# Altium schematic symbol library Schlib.SchLib: 84 symbols (part 2 of 2)
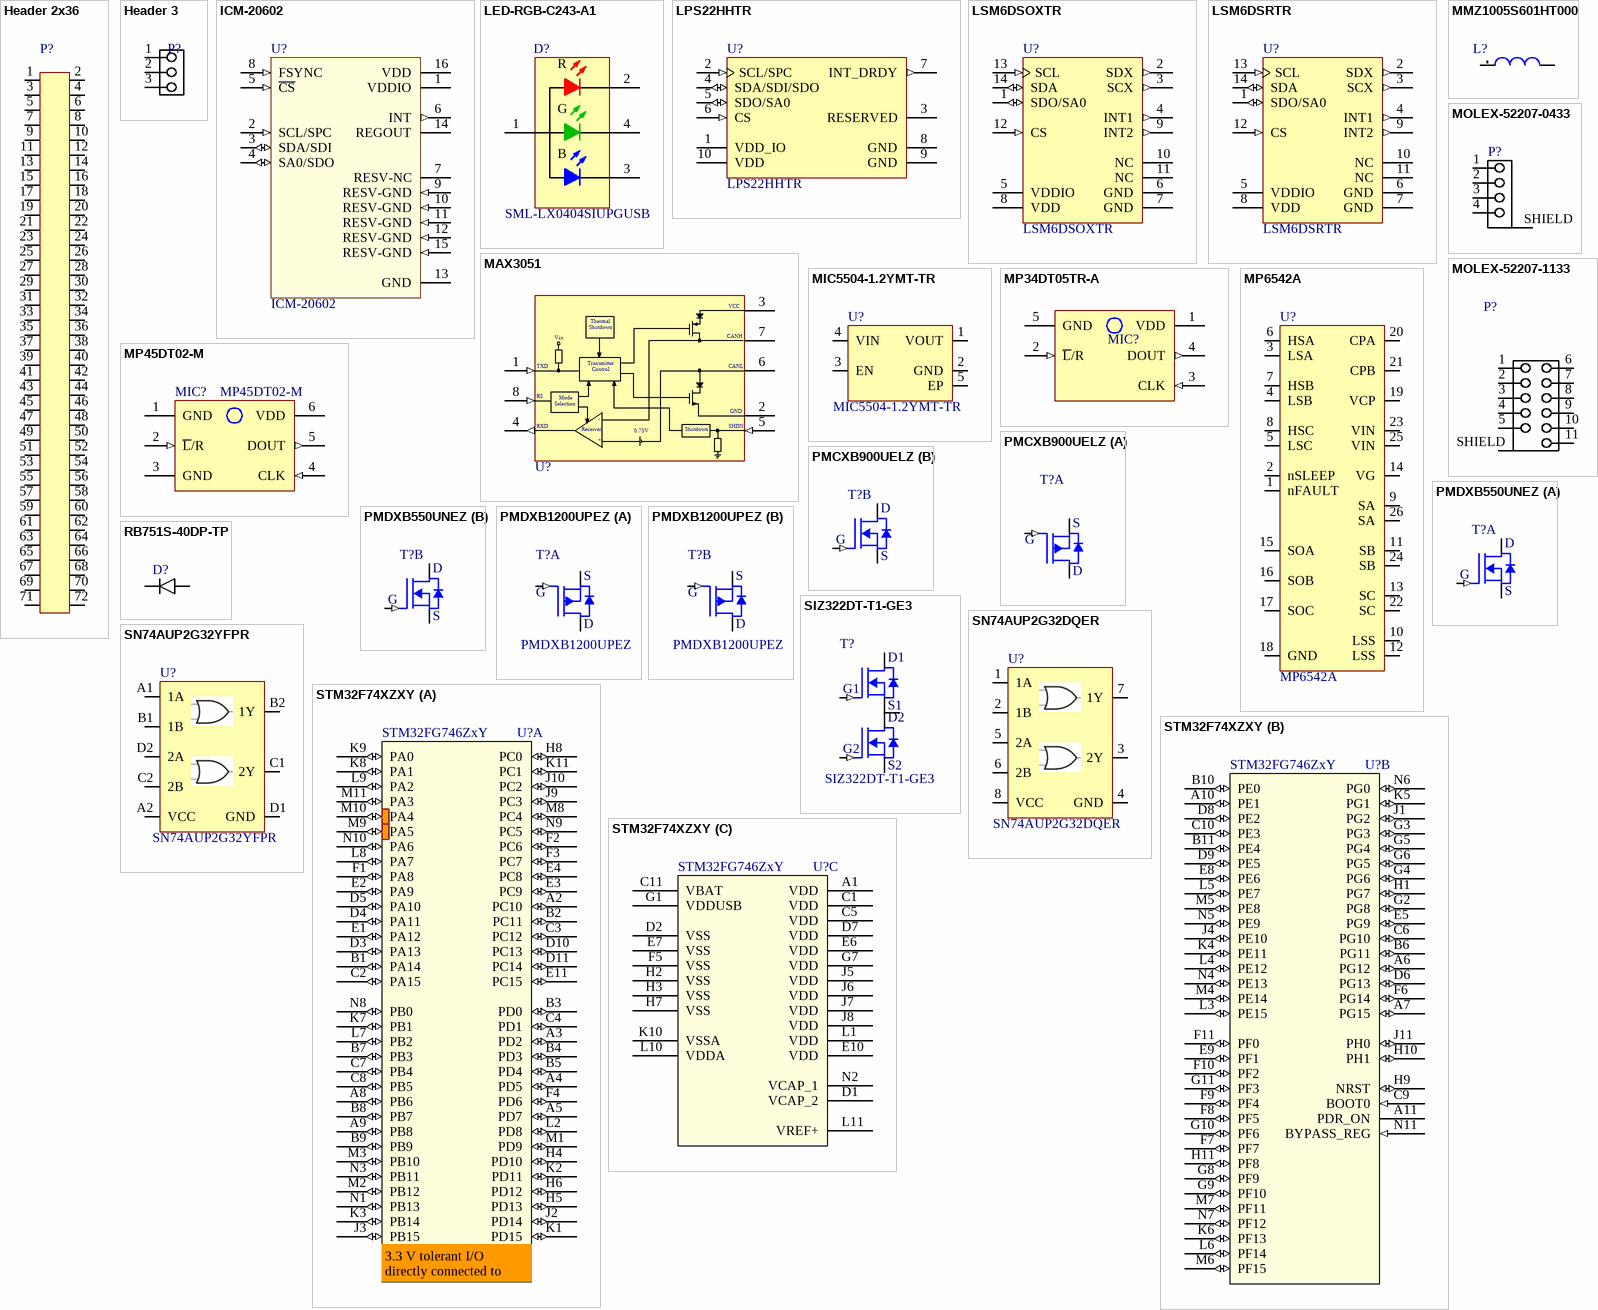
[diagram p5: symbols Header 2x36 to STM32F74XZXY]

## PMCXB900UELZ
designator T?  (value not drawn)
20 V, COMPLEMENTARY N/P-CHANNEL; Manufacturer: NXP Semiconductors; Manufacturer Part Number: PMCXB900UELZ; FET Type: N and P-Channel; Drain to Source Voltage (Vdss): 20V; Continuous Drain Current (ID): 600mA; Rds On Max: 620mR; Input Capacitance: 21.3pF; Max Power Dissipation: 380mW; Supplier 1: Digi-Key; Stock 1: 3593; Pricing 1: 1 = 0,38000, 10 = 0,30600, 25 = 0,27960, 100 = 0,17550, 500 = 0,16250, 1000 = 0,11050, 2500 = 0,10595 (USD); RoHS: Yes; Mount: Surface Mount; Min Operating Temperature: -55°C; Max Operating Temperature: 150°C; Packaging: Tape and Reel; ComponentLink1URL: http://www.farnell.com/datasheets/2167014.pdf?src-supplier=Farnell; ComponentLink1Description: http://www.farnell.com/datasheets/2167014.pdf?src-supplier=Farnell; ComponentLink2URL: https://assets.nexperia.com/documents/data-sheet/PMCXB900UEL.pdf?src-supplier=Digi-Key; ComponentLink2Description: https://assets.nexperia.com/documents/data-sheet/PMCXB900UEL.pdf?src-supplier=Digi-Key; ComponentLink3URL: http://cache.nxp.com/documents/data_sheet/PMCXB900UEL.pdf?src-supplier=Digi-Key; ComponentLink3Description: http://cache.nxp.com/documents/data_sheet/PMCXB900UEL.pdf?src-supplier=Digi-Key
footprint DFN1010B-6
part A pins: 3 D, 4 S, 5 G (in)
part B pins: 1 S, 2 G (in), 6 D

## PMDXB550UNEZ
designator T?  (value not drawn)
DUAL N-CHANNEL 30V; Manufacturer: NXP Semiconductors; Manufacturer Part Number: PMDXB550UNEZ; Continuous Drain Current (ID): 590mA; Max Power Dissipation: 285mW; Rds On Max: 670mR; Input Capacitance: 30.3pF; FET Type: 2 N-Channel; Supplier 1: Digi-Key; Stock 1: 5582; Pricing 1: 1=0.48, 10=0.379, 100=0.2601, 500=0.17838, 1000=0.13379 (USD); Mount: Surface Mount; Min Operating Temperature: -55°C; Max Operating Temperature: 150°C; Drain to Source Voltage (Vdss): 30V; Packaging: Tape and Reel; Supplier Part Number 1: 1727-2277-1-ND
footprint DFN1010B-6
part A pins: 1 S, 2 G (in), 6 D
part B pins: 3 D, 4 S, 5 G (in)

## PMDXB1200UPEZ
designator T?  Manufacturer Part Number: PMDXB1200UPEZ  (hidden comment: *)
DUAL P-CHANNEL 30V; Manufacturer: NXP Semiconductors; Continuous Drain Current (ID): 410mA; Max Power Dissipation: 285mW; Rds On Max: 1.4R; Input Capacitance: 43.2pF; Supplier 1: Digikey; Stock 1: 13268; Pricing 1: 1=0.48, 10=0.379, 100=0.2601, 500=0.17838, 1000=0.13379 (USD); Mount: Surface Mount; Min Operating Temperature: -55°C; Max Operating Temperature: 150°C; Drain to Source Voltage (Vdss): 30V; Packaging: Tape and Reel
footprint DFN1010B-6
part A pins: 1 S, 2 G (in), 6 D
part B pins: 3 D, 4 S, 5 G (in)

## RB751S-40DP-TP
designator D?  (value not drawn)
Schottky Diodes & Rectifiers 203 Package Schottky Diodes; Manufacturer: MCC; Manufacturer Part Number: RB751S-40DP-TP; Reverse Voltage (DC): 28V; Average Rectified Current: 30mA; Element Configuration: Single; Forward Current: 200mA; Max Repetitive Reverse Voltage (Vrrm): 40V; Peak Reverse Current: 500nA; Max Power Dissipation: 100mW; Supplier 1: Digi-Key; Stock 1: 104704; Pricing 1: 1=0.3, 10=0.27, 100=0.1514, 500=0.08112, 1000=0.05516 (USD); Mount: Surface Mount; Case/Package: 0201; Case Code (Metric): 0603; Case Code (Imperial): 0201; Max Operating Temperature: 125°C; Packaging: Tape and Reel; Termination: SMD/SMT; Max Forward Surge Current (Ifsm): 200mA; Package Quantity: 10000; Max Reverse Voltage (DC): 40V; Length: 0.67mm; Height: 0.34mm; Width: 0.37mm; Supplier Part Number 1: RB751S-40DP-TPMSCT-ND
footprint 0201 diode (for 0201 mcsemi diode)
pins: 1 C, 2 C

## SIZ322DT-T1-GE3
designator T?  Manufacturer Part Number: SIZ322DT-T1-GE3  (hidden comment: *)
Manufacturer: Vishay Siliconix; Supplier 1: Digi-Key; Stock 1: 0; Pricing 1: 3000=0.37036 (USD); Supplier Part Number 1: SIZ322DT-T1-GE3TR-ND
footprint PowerPair 3x3
pins: 1 G1 (in), 2 D1, 3 D1, 4 D1, 5 S2, 6 S2, 7 S2, 8 G2 (in), 9 S1/D2, 10 D1
text: S1; D2

## SN74AUP2G32DQER
designator U?  Manufacturer Part Number: SN74AUP2G32DQER  (hidden comment: *)
IC GATE OR 2CH 2-INP 8X2SON; Manufacturer: Texas Instruments; Output Current: 20mA; Output Voltage: 3.6V; Min Supply Voltage: 800mV; Number of Outputs: 1; Number of Inputs: 2; Propagation Delay: 6.2ns; Quiescent Current: 500nA; High Level Output Current: -4mA; Low Level Output Current: 4mA; Turn-On Delay Time: 18ns; Supplier 1: Digi-Key; Stock 1: 6730; Pricing 1: 1 = 0,57000, 10 = 0,48700, 100 = 0,36340, 500 = 0,28552, 1000 = 0,22063 (USD); RoHS: Yes; Mount: Surface Mount; Number of Pins: 8; Min Operating Temperature: -40°C; Max Operating Temperature: 85°C; Package Quantity: 1; Max Supply Voltage: 3.6V; Packaging: Tape and Reel; Logic Function: OR; Number of Circuits: 2; Number of Gates: 2; Number of Input Lines: 2; Number of Output Lines: 2; Number of Elements: 2; Number of Bits: 2; Radiation Hardening: No; Lead Free: Lead Free; ComponentLink1URL: https://datasheet.ciiva.com/14291/sn74aup2g32-14291236.pdf?src-supplier=Avnet; ComponentLink1Description: https://datasheet.ciiva.com/14291/sn74aup2g32-14291236.pdf?src-supplier=Avnet; ComponentLink2URL: https://datasheet.ciiva.com/14309/sn74aup2g32-14309785.pdf?src-supplier=Avnet; ComponentLink2Description: https://datasheet.ciiva.com/14309/sn74aup2g32-14309785.pdf?src-supplier=Avnet; ComponentLink3URL: https://datasheet.ciiva.com/1866/sn74aup2g32-1866570.pdf?src-supplier=Digi-Key; ComponentLink3Description: https://datasheet.ciiva.com/1866/sn74aup2g32-1866570.pdf?src-supplier=Digi-Key; ComponentLink4URL: https://datasheet.ciiva.com/1866/sn74aup2g32-1866571.pdf?src-supplier=Digi-Key; ComponentLink4Description: https://datasheet.ciiva.com/1866/sn74aup2g32-1866571.pdf?src-supplier=Digi-Key; ComponentLink5URL: https://datasheet.ciiva.com/1866/sn74aup2g32-1866572.pdf?src-supplier=Digi-Key; ComponentLink5Description: https://datasheet.ciiva.com/1866/sn74aup2g32-1866572.pdf?src-supplier=Digi-Key; Supplier Part Number 1: 296-25873-1-ND
pins: 1 1A, 2 1B, 3 2Y, 4 GND, 5 2A, 6 2B, 7 1Y, 8 VCC

## SN74AUP2G32YFPR
designator U?  Manufacturer Part Number: SN74AUP2G32YFPR  (hidden comment: *)
IC GATE OR 2CH 2-INP 8DSBGA; Manufacturer: Texas Instruments; Output Current: 20mA; Output Voltage: 3.6V; Number of Inputs: 2; Propagation Delay: 6.2ns; Min Supply Voltage: 800mV; Number of Outputs: 1; Low Level Output Current: 4mA; Quiescent Current: 500nA; High Level Output Current: -4mA; Supplier 1: Digi-Key; Stock 1: 2550; Pricing 1: 1 = 0,64000, 10 = 0,56100, 100 = 0,43000, 500 = 0,33990, 1000 = 0,27192 (USD); RoHS: Yes; Mount: Surface Mount; Number of Pins: 8; Min Operating Temperature: -40°C; Max Operating Temperature: 85°C; Package Quantity: 1; Packaging: Tape and Reel; Logic Function: OR; Max Supply Voltage: 3.6V; Number of Gates: 2; Number of Input Lines: 2; Number of Output Lines: 2; Number of Circuits: 2; Number of Elements: 2; Number of Bits: 2; Radiation Hardening: No; Lead Free: Lead Free; ComponentLink1URL: https://datasheet.ciiva.com/4219/4951sn74aup2g32-4219026.pdf?src-supplier=Arrow; ComponentLink1Description: https://datasheet.ciiva.com/4219/4951sn74aup2g32-4219026.pdf?src-supplier=Arrow; ComponentLink2URL: https://datasheet.ciiva.com/1867/sn74aup2g32-1867078.pdf?src-supplier=Digi-Key; ComponentLink2Description: https://datasheet.ciiva.com/1867/sn74aup2g32-1867078.pdf?src-supplier=Digi-Key; ComponentLink3URL: https://datasheet.ciiva.com/1867/sn74aup2g32-1867079.pdf?src-supplier=Digi-Key; ComponentLink3Description: https://datasheet.ciiva.com/1867/sn74aup2g32-1867079.pdf?src-supplier=Digi-Key; ComponentLink4URL: https://datasheet.ciiva.com/1867/sn74aup2g32-1867080.pdf?src-supplier=Digi-Key; ComponentLink4Description: https://datasheet.ciiva.com/1867/sn74aup2g32-1867080.pdf?src-supplier=Digi-Key; ComponentLink5URL: https://datasheet.ciiva.com/14309/sn74aup2g32-14309790.pdf?src-supplier=Avnet; ComponentLink5Description: https://datasheet.ciiva.com/14309/sn74aup2g32-14309790.pdf?src-supplier=Avnet; Supplier Part Number 1: 296-25209-1-ND
footprint DSBGA 8-pin Ti
pins: A1 1A, A2 VCC, B1 1B, B2 1Y, C1 2Y, C2 2B, D1 GND, D2 2A

## STM32F74XZXY
designator U?, comment STM32FG746ZxY
Imported; Manufacturer_Part_Number: stm32f74xzxy; Vendor: STMicroelectronics; C: Copyright (C) 2016 Accelerated Designs. All rights reserved; Copyright: Copyright (C) 2016 Accelerated Designs. All rights reserved; RefDes: RefDes; Type: DEV; Value: Value
footprint WLCSP-143
part A pins: A2 PC10 (io), A3 PD2 (io), A4 PD5 (io), A5 PD7 (io), A8 PB6 (io), A9 PB8 (io), B1 PA14 (io), B2 PC11 (io), B3 PD0 (io), B4 PD3 (io), B5 PD4 (io), B7 PB3 (io), B8 PB7 (io), B9 PB9 (io), C2 PA15 (io), C3 PC12 (io), C4 PD1 (io), C7 PB4 (io), C8 PB5 (io), D3 PA13 (io), D4 PA11 (io), D5 PA10 (io), D10 PC13 (io), D11 PC14 (io), E1 PA12 (io), E2 PA9 (io), E3 PC9 (io), E4 PC8 (io), E11 PC15 (io), F1 PA8 (io), F2 PC6 (io), F3 PC7 (io), F4 PD6 (io), H4 PD10 (io), H5 PD13 (io), H6 PD12 (io), H8 PC0 (io), J2 PD14 (io), J3 PB15 (io), J9 PC3 (io), J10 PC2 (io), K1 PD15 (io), K2 PD11 (io), K3 PB14 (io), K7 PB1 (io), K8 PA1 (io), K9 PA0 (io), K11 PC1 (io), L2 PD8 (io), L7 PB2 (io), L8 PA7 (io), L9 PA2 (io), M1 PD9 (io), M2 PB12 (io), M3 PB10 (io), M8 PC4 (io), M9 PA5 (io), M10 PA4 (io), M11 PA3 (io), N1 PB13 (io), N3 PB11 (io), N8 PB0 (io), N9 PC5 (io), N10 PA6 (io)
part B pins: A6 PG12 (io), A7 PG15 (io), A10 PE1 (io), A11 PDR_ON, B6 PG11 (io), B10 PE0 (io), B11 PE4 (io), C6 PG10 (io), C9 BOOT0 (in), C10 PE3 (io), D6 PG13 (io), D8 PE2 (io), D9 PE5 (io), E5 PG9 (io), E8 PE6 (io), E9 PF1 (io), F6 PG14 (io), F7 PF7 (io), F8 PF5 (io), F9 PF4 (io), F10 PF2 (io), F11 PF0 (io), G2 PG8 (io), G3 PG3 (io), G4 PG6 (io), G5 PG4 (io), G6 PG5 (io), G8 PF9 (io), G9 PF10 (io), G10 PF6 (io), G11 PF3 (io), H1 PG7 (io), H9 NRST (io), H10 PH1 (io), H11 PF8 (io), J1 PG2 (io), J4 PE10 (io), J11 PH0 (io), K4 PE11 (io), K5 PG1 (io), K6 PF13 (io), L3 PE15 (io), L4 PE12 (io), L5 PE7 (io), L6 PF14 (io), M4 PE14 (io), M5 PE8 (io), M6 PF15 (io), M7 PF11 (io), N4 PE13 (io), N5 PE9 (io), N6 PG0 (io), N7 PF12 (io), N11 BYPASS_REG (in)
part C pins: A1 VDD (power), C1 VDD (power), C5 VDD (power), C11 VBAT (power), D1 VCAP_2 (power), D2 VSS (power), D7 VDD (power), E6 VDD (power), E7 VSS (power), E10 VDD (power), F5 VSS (power), G1 VDDUSB (power), G7 VDD (power), H2 VSS (power), H3 VSS (power), H7 VSS (power), J5 VDD (power), J6 VDD (power), J7 VDD (power), J8 VDD (power), K10 VSSA (power), L1 VDD (power), L10 VDDA (power), L11 VREF+ (power), N2 VCAP_1 (power)
part A text: 3.3 V tolerant I/O directly connected to ADC

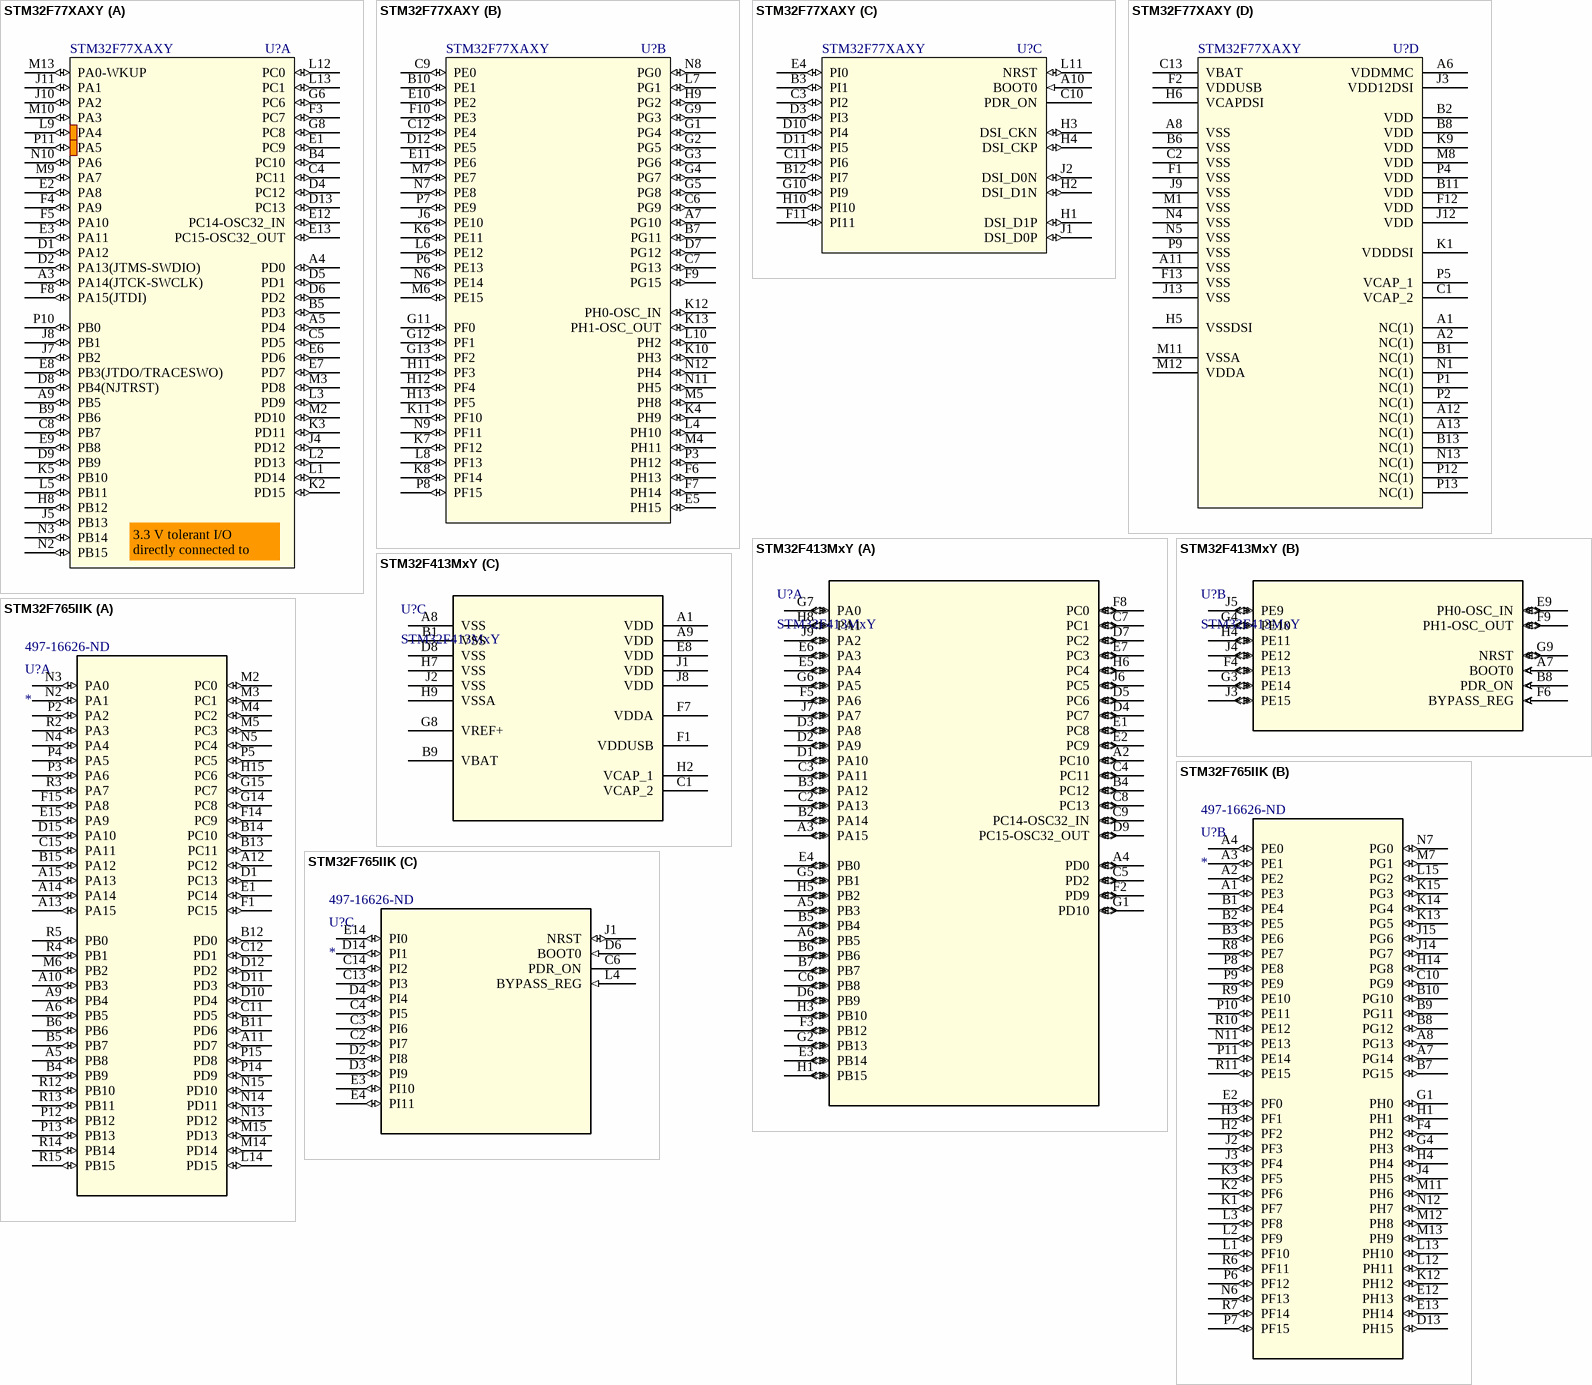
[diagram p2: symbols STM32F77XAXY to STM32F765IIK]

## STM32F77XAXY
designator U?
Imported; Vendor: STMicroelectronics; C: Copyright (C) 2016 Accelerated Designs. All rights reserved; Manufacturer_Part_Number: stm32f77xaxy; Copyright: Copyright (C) 2016 Accelerated Designs. All rights reserved; RefDes: RefDes; Type: DEV; Value: Value
footprint WLCSP-180
part A pins: A3 PA14(JTCK-SWCLK) (io), A4 PD0 (io), A5 PD4 (io), A9 PB5 (io), B4 PC10 (io), B5 PD3 (io), B9 PB6 (io), C4 PC11 (io), C5 PD5 (io), C8 PB7 (io), D1 PA12 (io), D2 PA13(JTMS-SWDIO) (io), D4 PC12 (io), D5 PD1 (io), D6 PD2 (io), D8 PB4(NJTRST) (io), D9 PB9 (io), D13 PC13 (io), E1 PC9 (io), E2 PA8 (io), E3 PA11 (io), E6 PD6 (io), E7 PD7 (io), E8 PB3(JTDO/TRACESWO) (io), E9 PB8 (io), E12 PC14-OSC32_IN (io), E13 PC15-OSC32_OUT (io), F3 PC7 (io), F4 PA9 (io), F5 PA10 (io), F8 PA15(JTDI) (io), G6 PC6 (io), G8 PC8 (io), H8 PB12 (io), J4 PD12 (io), J5 PB13 (io), J7 PB2 (io), J8 PB1 (io), J10 PA2 (io), J11 PA1 (io), K2 PD15 (io), K3 PD11 (io), K5 PB10 (io), L1 PD14 (io), L2 PD13 (io), L3 PD9 (io), L5 PB11 (io), L9 PA4 (io), L12 PC0 (io), L13 PC1 (io), M2 PD10 (io), M3 PD8 (io), M9 PA7 (io), M10 PA3 (io), M13 PA0-WKUP (io), N2 PB15 (io), N3 PB14 (io), N10 PA6 (io), P10 PB0 (io), P11 PA5 (io)
part B pins: A7 PG10 (io), B7 PG11 (io), B10 PE1 (io), C6 PG9 (io), C7 PG13 (io), C9 PE0 (io), C12 PE4 (io), D7 PG12 (io), D12 PE5 (io), E5 PH15 (io), E10 PE2 (io), E11 PE6 (io), F6 PH13 (io), F7 PH14 (io), F9 PG15 (io), F10 PE3 (io), G1 PG4 (io), G2 PG5 (io), G3 PG6 (io), G4 PG7 (io), G5 PG8 (io), G9 PG3 (io), G11 PF0 (io), G12 PF1 (io), G13 PF2 (io), H9 PG2 (io), H11 PF3 (io), H12 PF4 (io), H13 PF5 (io), J6 PE10 (io), K4 PH9 (io), K6 PE11 (io), K7 PF12 (io), K8 PF14 (io), K10 PH3 (io), K11 PF10 (io), K12 PH0-OSC_IN (io), K13 PH1-OSC_OUT (io), L4 PH10 (io), L6 PE12 (io), L7 PG1 (io), L8 PF13 (io), L10 PH2 (io), M4 PH11 (io), M5 PH8 (io), M6 PE15 (io), M7 PE7 (io), N6 PE14 (io), N7 PE8 (io), N8 PG0 (io), N9 PF11 (io), N11 PH5 (io), N12 PH4 (io), P3 PH12 (io), P6 PE13 (io), P7 PE9 (io), P8 PF15 (io)
part C pins: A10 BOOT0 (in), B3 PI1 (io), B12 PI7 (io), C3 PI2 (io), C10 PDR_ON, C11 PI6 (io), D3 PI3 (io), D10 PI4 (io), D11 PI5 (io), E4 PI0 (io), F11 PI11 (io), G10 PI9 (io), H1 DSI_D1P (io), H2 DSI_D1N (io), H3 DSI_CKN (io), H4 DSI_CKP (io), H10 PI10 (io), J1 DSI_D0P (io), J2 DSI_D0N (io), L11 NRST (io)
part D pins: A1 NC(1), A2 NC(1), A6 VDDMMC (power), A8 VSS (power), A11 VSS (power), A12 NC(1), A13 NC(1), B1 NC(1), B2 VDD (power), B6 VSS (power), B8 VDD (power), B11 VDD (power), B13 NC(1), C1 VCAP_2 (power), C2 VSS (power), C13 VBAT (power), F1 VSS (power), F2 VDDUSB (power), F12 VDD (power), F13 VSS (power), H5 VSSDSI (power), H6 VCAPDSI (power), J3 VDD12DSI (power), J9 VSS (power), J12 VDD (power), J13 VSS (power), K1 VDDDSI (power), K9 VDD (power), M1 VSS (power), M8 VDD (power), M11 VSSA (power), M12 VDDA (power), N1 NC(1), N4 VSS (power), N5 VSS (power), N13 NC(1), P1 NC(1), P2 NC(1), P4 VDD (power), P5 VCAP_1 (power), P9 VSS (power), P12 NC(1), P13 NC(1)
part A text: 3.3 V tolerant I/O directly connected to ADC

## STM32F413MxY
designator U?
ARM Cortex-M4 32-bit MCU+FPU, 1 or 1.5 MB Flash, 320 KB Internal RAM, 60 I/Os, 81-Pin WLCSP, -40 to 85 degC; Vendor: STMicroelectronics; C: Copyright (C) 2016 Accelerated Designs. All rights reserved; Manufacturer_Part_Number: stm32f413mxy; Copyright: Copyright (C) 2016 Accelerated Designs. All rights reserved; RefDes: RefDes; Type: DEV; Value: Value
footprint WLCSP81
footprint WLCSP81-ULB
footprint WLCSP81_ADV (BGA, 81-Balls, Body 4.07x3.99mm, Pitch 0.4mm)
part A pins: A2 PC10 (io), A3 PA15 (io), A4 PD0 (io), A5 PB3 (io), A6 PB5 (io), B2 PA14 (io), B3 PA12 (io), B4 PC12 (io), B5 PB4 (io), B6 PB6 (io), B7 PB7 (io), C2 PA13 (io), C3 PA11 (io), C4 PC11 (io), C5 PD2 (io), C6 PB8 (io), C7 PC1 (io), C8 PC13 (io), C9 PC14-OSC32_IN (io), D1 PA10 (io), D2 PA9 (io), D3 PA8 (io), D4 PC7 (io), D5 PC6 (io), D6 PB9 (io), D7 PC2 (io), D9 PC15-OSC32_OUT (io), E1 PC8 (io), E2 PC9 (io), E3 PB14 (io), E4 PB0 (io), E5 PA4 (io), E6 PA3 (io), E7 PC3 (io), F2 PD9 (io), F3 PB12 (io), F5 PA6 (io), F8 PC0 (io), G1 PD10 (io), G2 PB13 (io), G5 PB1 (io), G6 PA5 (io), G7 PA0 (io), H1 PB15 (io), H3 PB10 (io), H5 PB2 (io), H6 PC4 (io), H8 PA1 (io), J6 PC5 (io), J7 PA7 (io), J9 PA2 (io)
part B pins: A7 BOOT0 (in), B8 PDR_ON (in), E9 PH0-OSC_IN (io), F4 PE13 (io), F6 BYPASS_REG (in), F9 PH1-OSC_OUT (io), G3 PE14 (io), G4 PE10 (io), G9 NRST (io), H4 PE11 (io), J3 PE15 (io), J4 PE12 (io), J5 PE9 (io)
part C pins: A1 VDD (power), A8 VSS (power), A9 VDD (power), B1 VSS (power), B9 VBAT (power), C1 VCAP_2 (power), D8 VSS (power), E8 VDD (power), F1 VDDUSB (power), F7 VDDA (power), G8 VREF+ (power), H2 VCAP_1 (power), H7 VSS (power), H9 VSSA (power), J1 VDD (power), J2 VSS (power), J8 VDD (power)

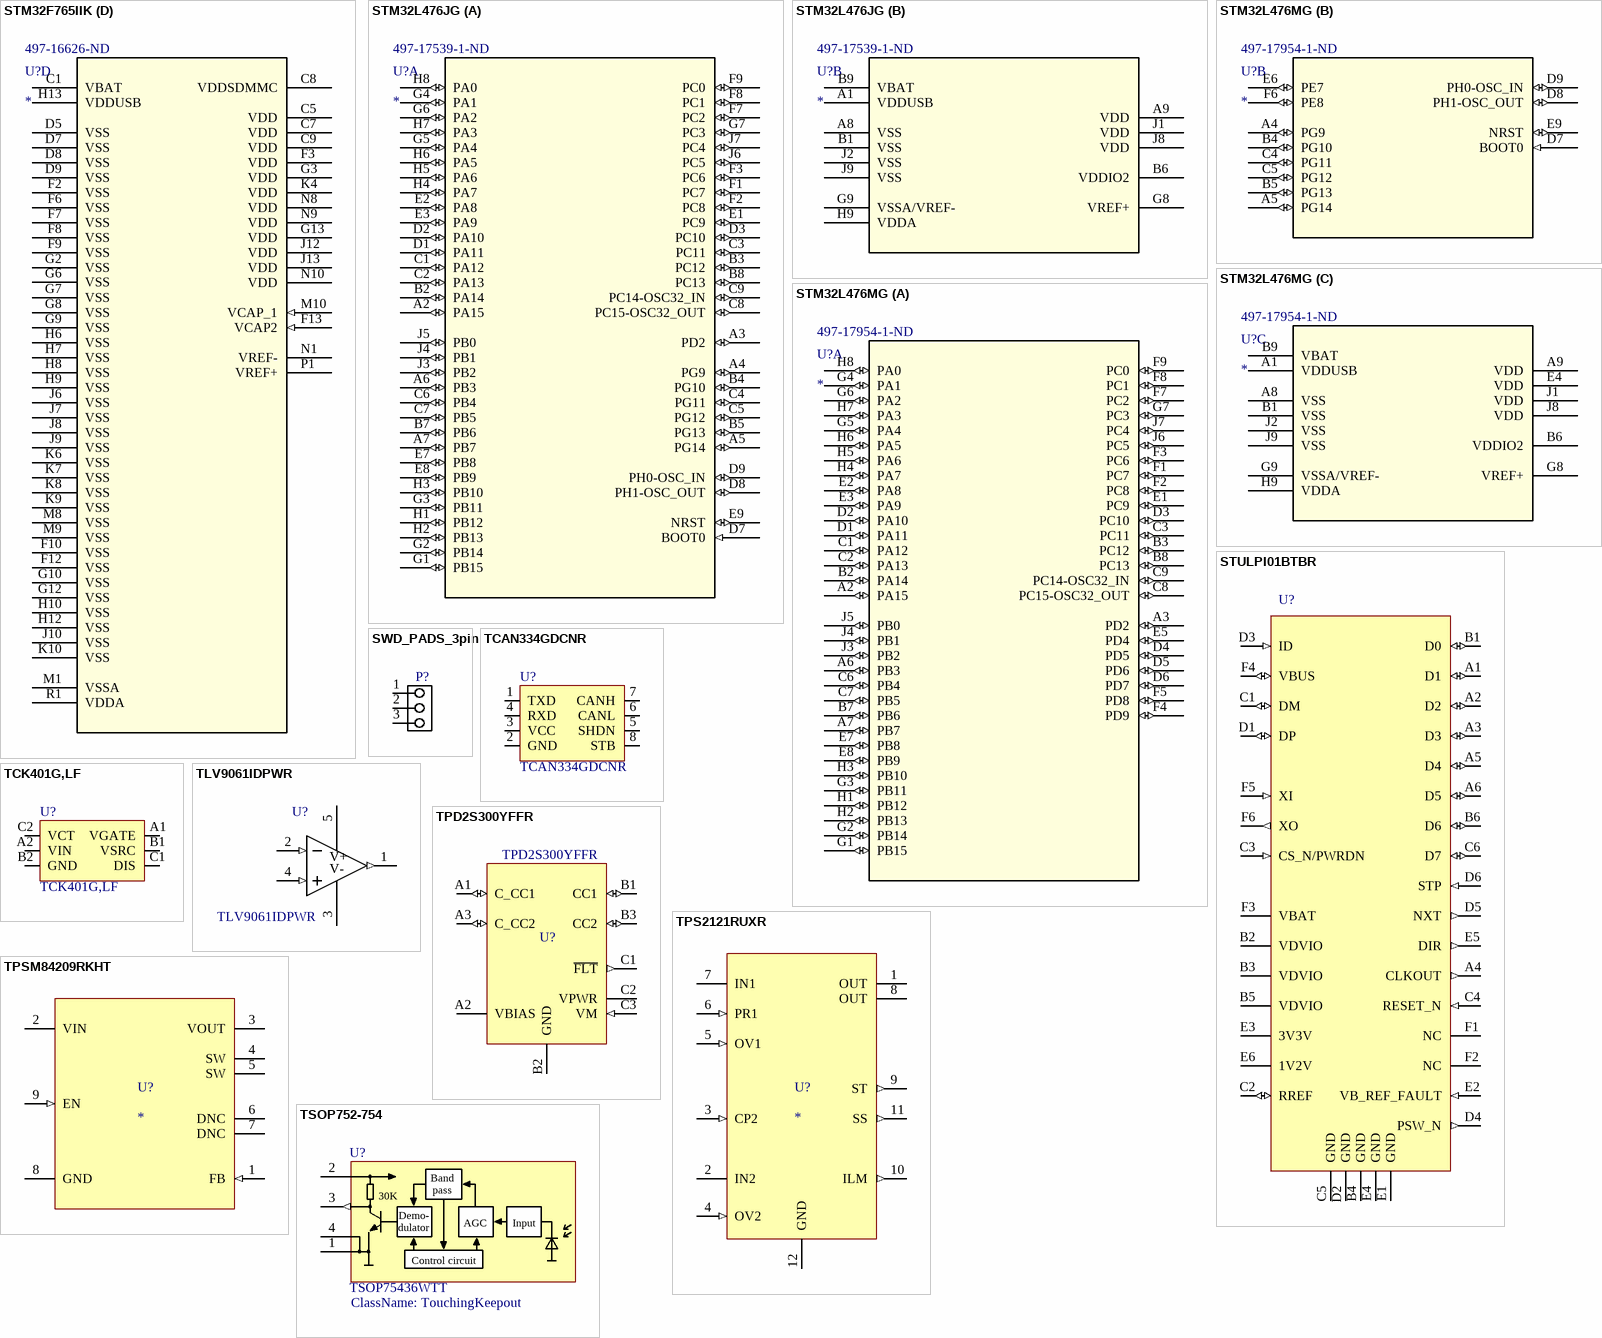
[diagram p3: symbols STM32F765IIK to TSOP752-754]

## STM32F765IIK
designator U?  Supplier Part Number 1: 497-16626-ND
IC MCU 32BIT 2MB FLASH 176UFBGA; Manufacturer_Part_Number: stm32f76xixk; Manufacturer Part Number: STM32F765IIK6; Vendor: STMicroelectronics; C: Copyright (C) 2016 Accelerated Designs. All rights reserved; Core Processor: ARM® Cortex®-M7; Core Size: 32-Bit; Speed: 216MHz; Connectivity: CANbus, EBI/EMI, Ethernet, I²C, IrDA, LINbus, MMC/SD/SDIO, QSPI, SAI, SPDIF, SPI, UART/USART, USB OTG; Peripherals: Brown-out Detect/Reset, DMA, I²S, POR, PWM, WDT; Program Memory Size: 2MB (2M x 8); RAM Size: 512K x 8; Voltage - Supply (Vcc/Vdd): 1.7 V ~ 3.6 V; Data Converters: A/D 24x12b, A/D 2x12b; Oscillator Type: Internal; Copyright: Copyright (C) 2016 Accelerated Designs. All rights reserved; RefDes: RefDes; Type: DEV; Value: Value; Supplier 1: Digi-Key; Manufacturer: STMicroelectronics; RoHS: RoHS Compliant; Category: Integrated Circuits (ICs); Stock 1: 1499; Pricing 1: 1=16.21, 10=14.9, 100=12.5836, 500=11.194 (USD); Packaging: Tray; Part Status: Active; Program Memory Type: FLASH; EEPROM Size: -; Operating Temperature: -40°C ~ 85°C (TA); Package / Case: 201-UFBGA; Supplier Device Package: 176+25UFBGA (10x10); ComponentLink1URL: http://www.st.com/content/ccc/resource/technical/document/datasheet/group3/c5/37/9c/1d/a6/09/4e/1a/DM00273119/files/DM00273119.pdf/jcr:content/translations/en.DM00273119.pdf; ComponentLink1Description: http://www.st.com/content/ccc/resource/technical/document/datasheet/group3/c5/37/9c/1d/a6/09/4e/1a/DM00273119/files/DM00273119.pdf/jcr:content/translations/en.DM00273119.pdf
footprint UFBGA-176
part A pins: A5 PB8 (io), A6 PB5 (io), A9 PB4 (io), A10 PB3 (io), A11 PD7 (io), A12 PC12 (io), A13 PA15 (io), A14 PA14 (io), A15 PA13 (io), B4 PB9 (io), B5 PB7 (io), B6 PB6 (io), B11 PD6 (io), B12 PD0 (io), B13 PC11 (io), B14 PC10 (io), B15 PA12 (io), C11 PD5 (io), C12 PD1 (io), C15 PA11 (io), D1 PC13 (io), D10 PD4 (io), D11 PD3 (io), D12 PD2 (io), D15 PA10 (io), E1 PC14 (io), E15 PA9 (io), F1 PC15 (io), F14 PC9 (io), F15 PA8 (io), G14 PC8 (io), G15 PC7 (io), H15 PC6 (io), L14 PD15 (io), M2 PC0 (io), M3 PC1 (io), M4 PC2 (io), M5 PC3 (io), M6 PB2 (io), M14 PD14 (io), M15 PD13 (io), N2 PA1 (io), N3 PA0 (io), N4 PA4 (io), N5 PC4 (io), N13 PD12 (io), N14 PD11 (io), N15 PD10 (io), P2 PA2 (io), P3 PA6 (io), P4 PA5 (io), P5 PC5 (io), P12 PB12 (io), P13 PB13 (io), P14 PD9 (io), P15 PD8 (io), R2 PA3 (io), R3 PA7 (io), R4 PB1 (io), R5 PB0 (io), R12 PB10 (io), R13 PB11 (io), R14 PB14 (io), R15 PB15 (io)
part B pins: A1 PE3 (io), A2 PE2 (io), A3 PE1 (io), A4 PE0 (io), A7 PG14 (io), A8 PG13 (io), B1 PE4 (io), B2 PE5 (io), B3 PE6 (io), B7 PG15 (io), B8 PG12 (io), B9 PG11 (io), B10 PG10 (io), C10 PG9 (io), D13 PH15 (io), E2 PF0 (io), E12 PH13 (io), E13 PH14 (io), F4 PH2 (io), G1 PH0 (io), G4 PH3 (io), H1 PH1 (io), H2 PF2 (io), H3 PF1 (io), H4 PH4 (io), H14 PG8 (io), J2 PF3 (io), J3 PF4 (io), J4 PH5 (io), J14 PG7 (io), J15 PG6 (io), K1 PF7 (io), K2 PF6 (io), K3 PF5 (io), K12 PH12 (io), K13 PG5 (io), K14 PG4 (io), K15 PG3 (io), L1 PF10 (io), L2 PF9 (io), L3 PF8 (io), L12 PH11 (io), L13 PH10 (io), L15 PG2 (io), M7 PG1 (io), M11 PH6 (io), M12 PH8 (io), M13 PH9 (io), N6 PF13 (io), N7 PG0 (io), N11 PE13 (io), N12 PH7 (io), P6 PF12 (io), P7 PF15 (io), P8 PE8 (io), P9 PE9 (io), P10 PE11 (io), P11 PE14 (io), R6 PF11 (io), R7 PF14 (io), R8 PE7 (io), R9 PE10 (io), R10 PE12 (io), R11 PE15 (io)
part C pins: C2 PI7 (io), C3 PI6 (io), C4 PI5 (io), C6 PDR_ON, C13 PI3 (io), C14 PI2 (io), D2 PI8 (io), D3 PI9 (io), D4 PI4 (io), D6 BOOT0 (in), D14 PI1 (io), E3 PI10 (io), E4 PI11 (io), E14 PI0 (io), J1 NRST (io), L4 BYPASS_REG (in)
part D pins: C1 VBAT (power), C5 VDD (power), C7 VDD (power), C8 VDDSDMMC (power), C9 VDD (power), D5 VSS (power), D7 VSS (power), D8 VSS (power), D9 VSS (power), F2 VSS (power), F3 VDD (power), F6 VSS (power), F7 VSS (power), F8 VSS (power), F9 VSS (power), F10 VSS (power), F12 VSS (power), F13 VCAP2 (in), G2 VSS (power), G3 VDD (power), G6 VSS (power), G7 VSS (power), G8 VSS (power), G9 VSS (power), G10 VSS (power), G12 VSS (power), G13 VDD (power), H6 VSS (power), H7 VSS (power), H8 VSS (power), H9 VSS (power), H10 VSS (power), H12 VSS (power), H13 VDDUSB (power), J6 VSS (power), J7 VSS (power), J8 VSS (power), J9 VSS (power), J10 VSS (power), J12 VDD (power), J13 VDD (power), K4 VDD (power), K6 VSS (power), K7 VSS (power), K8 VSS (power), K9 VSS (power), K10 VSS (power), M1 VSSA (power), M8 VSS (power), M9 VSS (power), M10 VCAP_1 (in), N1 VREF- (power), N8 VDD (power), N9 VDD (power), N10 VDD (power), P1 VREF+ (power), R1 VDDA (power)

## STM32L476JG
designator U?  Supplier Part Number 1: 497-17539-1-ND
IC MCU 32BIT 1MB FLASH 72WLCSP; Manufacturer: STMicroelectronics; Manufacturer Part Number: STM32L476JGY6TR; Core Processor: ARM® Cortex®-M4; Core Size: 32-Bit; Speed: 80MHz; Connectivity: CANbus, I²C, IrDA, LINbus, MMC/SD, QSPI, SAI, SPI, SWPMI, UART/USART, USB OTG; Peripherals: Brown-out Detect/Reset, DMA, LCD, PWM, WDT; Program Memory Size: 1MB (1M x 8); RAM Size: 128K x 8; Voltage - Supply (Vcc/Vdd): 1.71 V ~ 3.6 V; Data Converters: A/D 16x12b, D/A 2x12b; Oscillator Type: Internal; Supplier 1: Digi-Key; RoHS: RoHS Compliant; Category: Integrated Circuits (ICs); Stock 1: 1937; Pricing 1: 1=9.68, 10=8.747, 100=7.2419, 500=6.30618, 1000=5.49248 (USD); Packaging: Cut Tape (CT); Part Status: Active; Program Memory Type: FLASH; EEPROM Size: -; Operating Temperature: -40°C ~ 85°C (TA); Package / Case: 72-UFBGA, WLCSP; Supplier Device Package: 72-WLCSP (4.41x3.76); ComponentLink1URL: http://www.st.com/content/ccc/resource/technical/document/datasheet/c5/ed/2f/60/aa/79/42/0b/DM00108832.pdf/files/DM00108832.pdf/jcr:content/translations/en.DM00108832.pdf; ComponentLink1Description: http://www.st.com/content/ccc/resource/technical/document/datasheet/c5/ed/2f/60/aa/79/42/0b/DM00108832.pdf/files/DM00108832.pdf/jcr:content/translations/en.DM00108832.pdf
footprint WLCSP72
part A pins: A2 PA15 (io), A3 PD2 (io), A4 PG9 (io), A5 PG14 (io), A6 PB3 (io), A7 PB7 (io), B2 PA14 (io), B3 PC12 (io), B4 PG10 (io), B5 PG13 (io), B7 PB6 (io), B8 PC13 (io), C1 PA12 (io), C2 PA13 (io), C3 PC11 (io), C4 PG11 (io), C5 PG12 (io), C6 PB4 (io), C7 PB5 (io), C8 PC15-OSC32_OUT (io), C9 PC14-OSC32_IN (io), D1 PA11 (io), D2 PA10 (io), D3 PC10 (io), D7 BOOT0 (in), D8 PH1-OSC_OUT (io), D9 PH0-OSC_IN (io), E1 PC9 (io), E2 PA8 (io), E3 PA9 (io), E7 PB8 (io), E8 PB9 (io), E9 NRST (io), F1 PC7 (io), F2 PC8 (io), F3 PC6 (io), F7 PC2 (io), F8 PC1 (io), F9 PC0 (io), G1 PB15 (io), G2 PB14 (io), G3 PB11 (io), G4 PA1 (io), G5 PA4 (io), G6 PA2 (io), G7 PC3 (io), H1 PB12 (io), H2 PB13 (io), H3 PB10 (io), H4 PA7 (io), H5 PA6 (io), H6 PA5 (io), H7 PA3 (io), H8 PA0 (io), J3 PB2 (io), J4 PB1 (io), J5 PB0 (io), J6 PC5 (io), J7 PC4 (io)
part B pins: A1 VDDUSB (power), A8 VSS (power), A9 VDD (power), B1 VSS (power), B6 VDDIO2 (power), B9 VBAT (power), G8 VREF+ (power), G9 VSSA/VREF- (power), H9 VDDA (power), J1 VDD (power), J2 VSS (power), J8 VDD (power), J9 VSS (power)

## STM32L476MG
designator U?  Supplier Part Number 1: 497-17954-1-ND
STM32 32-BIT ARM CORTEX MCUS; Manufacturer_Part_Number: STM32L476MX; Manufacturer Part Number: STM32L476MGY6TR; Vendor: STMicroelectronics; Built_By: EMA_UL_Team; Core Processor: ARM® Cortex®-M4; Speed: 80MHz; Connectivity: CANbus, I²C, IrDA, LINbus, MMC/SD, QSPI, SAI, SPI, SWPMI, UART/USART, USB OTG; Peripherals: Brown-out Detect/Reset, DMA, LCD, PWM, WDT; Program Memory Size: 1MB (1M x 8); Program Memory Type: FLASH; RAM Size: 128K x 8; Voltage - Supply (Vcc/Vdd): 1.71 V ~ 3.6 V; Data Converters: A/D 16x12b, D/A 2x12b; Oscillator Type: Internal; RefDes: RefDes; Type: DEV; Value: Value; Supplier 1: Digi-Key; Manufacturer: STMicroelectronics; RoHS: Request Inventory Verification; Category: Integrated Circuits (ICs); Stock 1: 10; Pricing 1: 1=9.91, 10=8.953, 100=7.4124, 500=6.45464, 1000=5.62179 (USD); Packaging: Cut Tape (CT); Part Status: Active; Core Size: 32-Bit; EEPROM Size: -; Operating Temperature: -40°C ~ 85°C (TA); Package / Case: 81-UFBGA, WLCSP; ComponentLink1URL: http://www.st.com/content/ccc/resource/technical/document/datasheet/c5/ed/2f/60/aa/79/42/0b/DM00108832.pdf/files/DM00108832.pdf/jcr:content/translations/en.DM00108832.pdf; ComponentLink1Description: http://www.st.com/content/ccc/resource/technical/document/datasheet/c5/ed/2f/60/aa/79/42/0b/DM00108832.pdf/files/DM00108832.pdf/jcr:content/translations/en.DM00108832.pdf
footprint WLCSP81
part A pins: A2 PA15 (io), A3 PD2 (io), A6 PB3 (io), A7 PB7 (io), B2 PA14 (io), B3 PC12 (io), B7 PB6 (io), B8 PC13 (io), C1 PA12 (io), C2 PA13 (io), C3 PC11 (io), C6 PB4 (io), C7 PB5 (io), C8 PC15-OSC32_OUT (io), C9 PC14-OSC32_IN (io), D1 PA11 (io), D2 PA10 (io), D3 PC10 (io), D4 PD5 (io), D5 PD6 (io), D6 PD7 (io), E1 PC9 (io), E2 PA8 (io), E3 PA9 (io), E5 PD4 (io), E7 PB8 (io), E8 PB9 (io), F1 PC7 (io), F2 PC8 (io), F3 PC6 (io), F4 PD9 (io), F5 PD8 (io), F7 PC2 (io), F8 PC1 (io), F9 PC0 (io), G1 PB15 (io), G2 PB14 (io), G3 PB11 (io), G4 PA1 (io), G5 PA4 (io), G6 PA2 (io), G7 PC3 (io), H1 PB12 (io), H2 PB13 (io), H3 PB10 (io), H4 PA7 (io), H5 PA6 (io), H6 PA5 (io), H7 PA3 (io), H8 PA0 (io), J3 PB2 (io), J4 PB1 (io), J5 PB0 (io), J6 PC5 (io), J7 PC4 (io)
part B pins: A4 PG9 (io), A5 PG14 (io), B4 PG10 (io), B5 PG13 (io), C4 PG11 (io), C5 PG12 (io), D7 BOOT0 (in), D8 PH1-OSC_OUT (io), D9 PH0-OSC_IN (io), E6 PE7 (io), E9 NRST (io), F6 PE8 (io)
part C pins: A1 VDDUSB (power), A8 VSS (power), A9 VDD (power), B1 VSS (power), B6 VDDIO2 (power), B9 VBAT (power), E4 VDD (power), G8 VREF+ (power), G9 VSSA/VREF- (power), H9 VDDA (power), J1 VDD (power), J2 VSS (power), J8 VDD (power), J9 VSS (power)

## STULPI01BTBR
designator U?  Manufacturer Part Number: STULPI01BTBR  (hidden comment: *)
IC ULPI TX USB ON-THE-GO 36TFBGA; Manufacturer: STMicroelectronics; Data Rate: 480Mbps; Number of Transceivers: 1; Supplier 1: Digi-Key; Stock 1: 3016; Pricing 1: 1=3.79, 10=3.407, 100=2.7918, 500=2.37662, 1000=2.00438 (USD); Mount: Surface Mount; Case/Package: TFBGA; Number of Pins: 36; Min Operating Temperature: -40°C; Max Operating Temperature: 85°C; Packaging: Tape and Reel; Package Quantity: 3000; Radiation Hardening: No; Lead Free: Lead Free; ComponentLink1URL: http://www.st.com/content/ccc/resource/technical/document/datasheet/2e/81/a4/b4/3f/4e/44/18/CD00201527.pdf/files/CD00201527.pdf/jcr:content/translations/en.CD00201527.pdf; ComponentLink1Description: http://www.st.com/content/ccc/resource/technical/document/datasheet/2e/81/a4/b4/3f/4e/44/18/CD00201527.pdf/files/CD00201527.pdf/jcr:content/translations/en.CD00201527.pdf; ComponentLink2URL: http://www.produktinfo.conrad.com/datenblaetter/1100000-1199999/001184650-da-01-en-IC_ULPI_TX_USB_STULPI01BTBR_TFBGA_36_STM.pdf; ComponentLink2Description: http://www.produktinfo.conrad.com/datenblaetter/1100000-1199999/001184650-da-01-en-IC_ULPI_TX_USB_STULPI01BTBR_TFBGA_36_STM.pdf; Supplier Part Number 1: 497-11987-6-ND
footprint uTFBGA36
pins: A1 D1 (io), A2 D2 (io), A3 D3 (io), A4 CLKOUT (out), A5 D4 (io), A6 D5 (io), B1 D0 (io), B2 VDVIO (power), B3 VDVIO (power), B4 GND (power), B5 VDVIO (power), B6 D6 (io), C1 DM (io), C2 RREF (io), C3 CS_N/PWRDN (in), C4 RESET_N (in), C5 GND (power), C6 D7 (io), D1 DP (io), D2 GND (power), D3 ID (in), D4 PSW_N (out), D5 NXT (out), D6 STP (in), E1 GND (power), E2 VB_REF_FAULT (in), E3 3V3V (power), E4 GND (power), E5 DIR (out), E6 1V2V (power), F1 NC, F2 NC, F3 VBAT (power), F4 VBUS (io), F5 XI (in), F6 XO (out)

## SWD_PADS_3pin
designator P?  (value not drawn)
footprint SWD_pads_3pin
pins: 1, 2, 3

## TCAN334GDCNR
designator U?  Manufacturer Part Number: TCAN334GDCNR  (hidden comment: *)
IC TXRX CAN 3.3V SOT23-8; Manufacturer: Texas Instruments; Supplier 1: Digi-Key; Stock 1: 2700; Pricing 1: 1 = 2,76000, 10 = 2,48100, 100 = 2,03260, 500 = 1,73032, 1000 = 1,45930 (USD); RoHS: No; Min Operating Temperature: -40°C; Max Operating Temperature: 125°C; Lead Free: Lead Free; ComponentLink1URL: http://www.ti.com/lit/ds/symlink/tcan334.pdf?src-supplier=Digi-Key; ComponentLink1Description: http://www.ti.com/lit/ds/symlink/tcan334.pdf?src-supplier=Digi-Key; Supplier Part Number 1: 296-49939-1-ND
footprint SOT-23-8
pins: 1 TXD, 2 GND, 3 VCC, 4 RXD, 5 SHDN, 6 CANL, 7 CANH, 8 STB

## TCK401G,LF
designator U?  Manufacturer Part Number: TCK401G,LF  (hidden comment: *)
Manufacturer: Toshiba; Supplier 1: Digi-Key; Stock 1: 12722; Pricing 1: 1 = 0,62000, 10 = 0,54400, 25 = 0,51080, 100 = 0,41690, 250 = 0,38728, 500 = 0,32960, 1000 = 0,26368, 2500 = 0,23896 (USD); RoHS: No; Supplier Part Number 1: TCK401GLFCT-ND
footprint WCSP6E
pins: A1 VGATE, A2 VIN, B1 VSRC, B2 GND, C1 DIS, C2 VCT

## TLV9061IDPWR
designator U?  Manufacturer Part Number: TLV9061IDPWR  (hidden comment: *)
OPAMP; Manufacturer: Texas Instruments; Number of Channels: 1; Supplier 1: Digi-Key; Stock 1: 1920; Pricing 1: 1 = 0,59000, 10 = 0,51700, 100 = 0,39610, 500 = 0,31312, 1000 = 0,25050 (USD); RoHS: No; Min Operating Temperature: -40°C; Max Operating Temperature: 125°C; ComponentLink1URL: http://www.ti.com/lit/ds/symlink/tlv9061.pdf?src-supplier=Farnell; ComponentLink1Description: http://www.ti.com/lit/ds/symlink/tlv9061.pdf?src-supplier=Farnell; ComponentLink2URL: http://www.ti.com/lit/ds/symlink/tlv9061.pdf?src-supplier=Digi-Key; ComponentLink2Description: http://www.ti.com/lit/ds/symlink/tlv9061.pdf?src-supplier=Digi-Key; Supplier Part Number 1: 296-49053-1-ND
footprint X2SON-5
pins: 1 OUT (out), 2 IN- (in), 3 VEE (power), 4 IN+ (in), 5 VCC (power)
text: V+; V-

## TPD2S300YFFR
designator U?  Manufacturer Part Number: TPD2S300YFFR  (hidden comment: *)
IC OVERVOLTAGE PROT CTRL 9DSBGA; Manufacturer: Texas Instruments; Interface: USB; Supplier 1: Digi-Key; Stock 1: 1190; Pricing 1: 1=1.22, 10=1.094, 100=0.8532, 500=0.70482, 1000=0.55643 (USD); Min Operating Temperature: -40°C; Max Operating Temperature: 85°C; Supplier Part Number 1: 296-50034-1-ND
footprint WLCSP9 - ti
pins: A1 C_CC1 (io), A2 VBIAS (power), A3 C_CC2 (io), B1 CC1 (io), B2 GND (power), B3 CC2 (io), C1 ~{FLT} (out), C2 VPWR (power), C3 VM (in)

## TPS2121RUXR
designator U?
Power Mux Dual Input One Output; Manufacturer: Texas Instruments; PartNumber: TPS2121RUXR; RefDes: RefDes; Type: DEV; Value: Value
footprint VQFN-HR (RUX) 12
pins: 1 OUT (power), 2 IN2 (power), 3 CP2 (in), 4 OV2 (in), 5 OV1 (in), 6 PR1 (in), 7 IN1 (power), 8 OUT (power), 9 ST (out), 10 ILM (out), 11 SS (out), 12 GND (power)

## TPSM84209RKHT
designator U?
DC DC CONVERTER 1.2-6V 15W; Manufacturer: Texas Instruments; Manufacturer Part Number: TPSM84209RKHT; Voltage - Input (Min): 4.5V; Voltage - Input (Max): 28V; Voltage - Output 1: 1.2 ~ 6 V; Current - Output (Max): 2.5A; Efficiency: 86.5%; Supplier 1: Digi-Key; RoHS: Request Inventory Verification; Category: Power Supplies - Board Mount; Stock 1: 47; Pricing 1: 1=5.04, 10=4.53, 100=3.7117 (USD); Packaging: Cut Tape (CT); Part Status: Active; Type: Non-Isolated PoL Module; Voltage - Output 2: -; Voltage - Output 3: -; Voltage - Output 4: -; Applications: ITE (Commercial); Features: OCP, OTP, UVLO; Operating Temperature: -40°C ~ 85°C (With Derating); Mounting Type: Surface Mount; Package / Case: 9-PowerQFN; Size / Dimension: 0.18" L x 0.16" W x 0.08" H (4.5mm x 4.0mm x 2.1mm); Supplier Device Package: 9-QFN-FCMOD (4.5x4); ComponentLink1URL: http://www.ti.com/lit/ds/symlink/tpsm84209.pdf; ComponentLink1Description: http://www.ti.com/lit/ds/symlink/tpsm84209.pdf
footprint QFN-FCMOD (RKH) 9
pins: 1 FB (in), 2 VIN (power), 3 VOUT (power), 4 SW (power), 5 SW (power), 6 DNC, 7 DNC, 8 GND (power), 9 EN (in)

## TSOP752-754
designator U?, comment TSOP75436WTT  ClassName: TouchingKeepout
Vishay 	TSOP75436WTT IR Receiver Modules for Remote Control Systems; Preference: 1; Quant_2: 50; Quant_3: 200; Currentie: CHF; Size: TSOP752-754; Footprint Acort: ToDefine; ComponentLink1URL: http://www.vishay.com/docs/82496/tsop752w.pdf; ComponentLink1Description: Datasheet; Supplier: Farnell; Supplier Nr: 2251419; ComponentLink2Description: Farnell link; ComponentLink2URL: http://ch.farnell.com/fr-CH/vishay/tsop75436wtt/recepteur-ir-heimdall-agc4-36khz/dp/2251419; Manufacturer: Vishay; Manufacturer Nr: TSOP75436WTT; Quant_1: 1; Price_1: 1.144; Price_2: 1.056; Price_3: 0.924; ROHS: True; DateLastUpdate: 2014-11-27 / 08:18:45
footprint VISHAY-TSOP752-754
pins: 1 GND (power), 2 VS (power), 3 OUT (out), 4 GND (power)
text: 30K; Band / pass; AGC; Input; Demo- / dulator; Control circuit

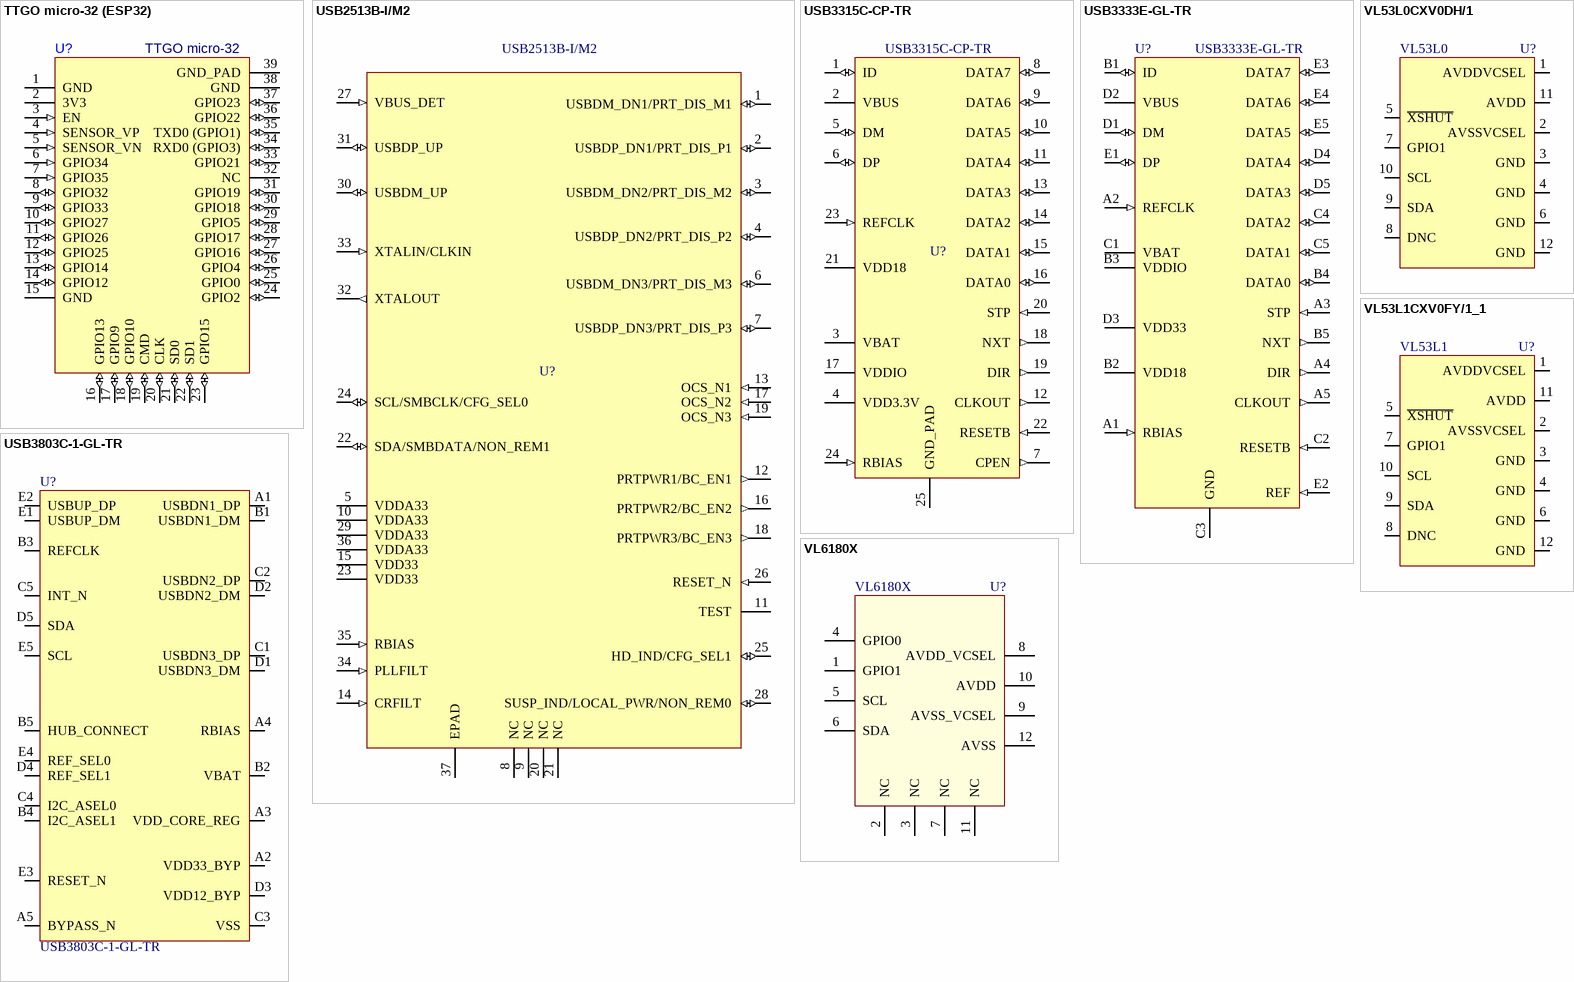
[diagram p4: symbols TTGO micro-32 (ESP32) to VL6180X]

## TTGO micro-32 (ESP32)
designator U?  PART NUMBER: TTGO micro-32
Wi-Fi BT BLE MCU Module; MANUFACTURER: LilyLGo; ESPRESSIF CHIP: esp32-pico-d4
footprint TTGO Micro-32 (ESP32)
pins: 1 GND (power), 2 3V3 (power), 3 EN (in), 4 SENSOR_VP (in), 5 SENSOR_VN (in), 6 GPIO34 (in), 7 GPIO35 (in), 8 GPIO32 (io), 9 GPIO33 (io), 10 GPIO27 (io), 11 GPIO26 (io), 12 GPIO25 (io), 13 GPIO14 (io), 14 GPIO12 (io), 15 GND (power), 16 GPIO13 (io), 17 GPIO9 (io), 18 GPIO10 (io), 19 CMD (io), 20 CLK (io), 21 SD0 (io), 22 SD1 (io), 23 GPIO15 (io), 24 GPIO2 (io), 25 GPIO0 (io), 26 GPIO4 (io), 27 GPIO16 (io), 28 GPIO17 (io), 29 GPIO5 (io), 30 GPIO18 (io), 31 GPIO19 (io), 32 NC, 33 GPIO21 (io), 34 RXD0 (GPIO3) (io), 35 TXD0 (GPIO1) (io), 36 GPIO22 (io), 37 GPIO23 (io), 38 GND (power), 39 GND_PAD (power)

## USB2513B-I/M2
designator U?  Manufacturer Part Number: USB2513B-I/M2  (hidden comment: *)
IC USB HUB CONTROLLER, USB 2.0, SQFN-36; Manufacturer: MICROCHIP; USB Standard: USB 2.0; Supply Voltage Min: 3; Supply Voltage Max: 3.6; Interface Case Style: SQFN; No. of Pins: 36; Data Rate: 480; No. of Ports: 3 Port; SVHC: No SVHC (17-Dec-2015); Supplier 1: Farnell; RoHS: YES; Stock 1: 431; Pricing 1: 1=2.44, 10=2.03, 25=1.92, 50=1.83, 100=1.74 (GBP); USB Type: USB Hub Controller; Operating Temperature Min: -40; Operating Temperature Max: 85; Packaging: Each; Product Range: -; MSL: MSL 1 - Unlimited; ComponentLink1URL: http://www.farnell.com/datasheets/2032129.pdf; ComponentLink1Description: http://www.farnell.com/datasheets/2032129.pdf; ComponentLink2URL: http://www.farnell.com/datasheets/2158507.pdf; ComponentLink2Description: http://www.farnell.com/datasheets/2158507.pdf; Supplier Part Number 1: 2534608
footprint SQFN6x6-36
pins: 1 USBDM_DN1/PRT_DIS_M1 (io), 2 USBDP_DN1/PRT_DIS_P1 (io), 3 USBDM_DN2/PRT_DIS_M2 (io), 4 USBDP_DN2/PRT_DIS_P2 (io), 5 VDDA33 (power), 6 USBDM_DN3/PRT_DIS_M3 (io), 7 USBDP_DN3/PRT_DIS_P3 (io), 8 NC, 9 NC, 10 VDDA33 (power), 11 TEST, 12 PRTPWR1/BC_EN1 (out), 13 OCS_N1 (in), 14 CRFILT (in), 15 VDD33 (power), 16 PRTPWR2/BC_EN2 (out), 17 OCS_N2 (in), 18 PRTPWR3/BC_EN3 (out), 19 OCS_N3 (in), 20 NC, 21 NC, 22 SDA/SMBDATA/NON_REM1 (io), 23 VDD33 (power), 24 SCL/SMBCLK/CFG_SEL0 (io), 25 HD_IND/CFG_SEL1 (io), 26 RESET_N (in), 27 VBUS_DET (in), 28 SUSP_IND/LOCAL_PWR/NON_REM0 (io), 29 VDDA33 (power), 30 USBDM_UP (io), 31 USBDP_UP (io), 32 XTALOUT (out), 33 XTALIN/CLKIN (in), 34 PLLFILT (in), 35 RBIAS (in), 36 VDDA33 (power), 37 EPAD (power)

## USB3315C-CP-TR
designator U?  Manufacturer Part Number: USB3315C-CP-TR  (hidden comment: *)
IC TXRX USB FLEXPWR 24QFN; Manufacturer: Microchip Technology; Protocol: USB 2.0; Number of Drivers/Receivers: 1/1; Voltage - Supply: 1.8 V ~ 3.3 V; RoHS: RoHS Compliant; Category: Integrated Circuits (ICs); Stock 1: 11568; Pricing 1: 1=1.28, 25=1.0712, 100=0.9682 (USD); Packaging: Cut Tape (CT); Part Status: Active; Type: Transceiver; Duplex: -; Data Rate: -; Operating Temperature: -40°C ~ 85°C; Mounting Type: Surface Mount; Package / Case: 24-VFQFN Exposed Pad; Supplier Device Package: 24-QFN (4x4); ComponentLink1URL: http://www.microchip.com/mymicrochip/filehandler.aspx?ddocname=en562026; ComponentLink1Description: http://www.microchip.com/mymicrochip/filehandler.aspx?ddocname=en562026; Supplier 1: Mouser; Supplier Part Number 1: 886-USB3315C-CP-TR
footprint QFN4X4-16 (Quad Flat No Lead, Plastic; 16 Terminals; Body 4 x 4 mm; Pitch 0.65 mm)
pins: 1 ID (io), 2 VBUS (power), 3 VBAT (power), 4 VDD3.3V (power), 5 DM (io), 6 DP (io), 7 CPEN (out), 8 DATA7 (io), 9 DATA6 (io), 10 DATA5 (io), 11 DATA4 (io), 12 CLKOUT (out), 13 DATA3 (io), 14 DATA2 (io), 15 DATA1 (io), 16 DATA0 (io), 17 VDDIO (power), 18 NXT (out), 19 DIR (out), 20 STP (in), 21 VDD18 (power), 22 RESETB (in), 23 REFCLK (in), 24 RBIAS (in), 25 GND_PAD (power)

## USB3333E-GL-TR
designator U?  Manufacturer Part Number: USB3333E-GL-TR  (hidden comment: *)
IC TXRX USB 2.0 FLEXPWR 25WLCSP; Manufacturer: Microchip; Data Rate: 480Mbps; Supplier 1: Digi-Key; Stock 1: 0; Pricing 1: 3000 = 1,47949 (USD); RoHS: Yes; Packaging: Tape and Reel; Package Quantity: 3000; ComponentLink1URL: https://datasheet.ciiva.com/6634/usb333x-6634538.pdf?src-supplier=Digi-Key; ComponentLink1Description: https://datasheet.ciiva.com/6634/usb333x-6634538.pdf?src-supplier=Digi-Key; Supplier Part Number 1: USB3333E-GL-TR-ND
footprint 25WLCSP
pins: A1 RBIAS (in), A2 REFCLK (in), A3 STP (in), A4 DIR (out), A5 CLKOUT (out), B1 ID (io), B2 VDD18 (power), B3 VDDIO (power), B4 DATA0 (io), B5 NXT (out), C1 VBAT (power), C2 RESETB (in), C3 GND (power), C4 DATA2 (io), C5 DATA1 (io), D1 DM (io), D2 VBUS (power), D3 VDD33 (power), D4 DATA4 (io), D5 DATA3 (io), E1 DP (io), E2 REF (in), E3 DATA7 (io), E4 DATA6 (io), E5 DATA5 (io)

## USB3803C-1-GL-TR
designator U?  Manufacturer Part Number: USB3803C-1-GL-TR  (hidden comment: *)
IC HUB CTLR 3PORT USB 2.0 25CSP; Manufacturer: Microchip; Data Rate: 480Mbps; Min Supply Voltage: 1.2V; Operating Supply Voltage: 3.3V; Interface: USB,Serial; Max Supply Voltage: 3.6V; Number of Ports: 3; ESD Protection: Yes; USB Standard: USB 2.0; Supplier 1: Digi-Key; Stock 1: 0; Pricing 1: 3000 = 1,97266 (USD); RoHS: Yes; Mount: Surface Mount; Number of Pins: 25; Min Operating Temperature: 0°C; Max Operating Temperature: 70°C; Packaging: Tape and Reel; Package Quantity: 1; Number of Transceivers: 3; Length: 2mm; Height: 0.38mm; Width: 2mm; Radiation Hardening: No; REACH SVHC: No SVHC; Lead Free: Lead Free; ComponentLink1URL: https://datasheet.ciiva.com/18456/usb3803-18456930.pdf?src-supplier=Digi-Key; ComponentLink1Description: https://datasheet.ciiva.com/18456/usb3803-18456930.pdf?src-supplier=Digi-Key; ComponentLink2URL: https://datasheet.ciiva.com/6636/usb3803-6636271.pdf?src-supplier=Digi-Key; ComponentLink2Description: https://datasheet.ciiva.com/6636/usb3803-6636271.pdf?src-supplier=Digi-Key; Supplier Part Number 1: USB3803C-1-GL-TR-ND
footprint 25WLCSP
pins: A1 USBDN1_DP, A2 VDD33_BYP, A3 VDD_CORE_REG, A4 RBIAS, A5 BYPASS_N, B1 USBDN1_DM, B2 VBAT, B3 REFCLK, B4 I2C_ASEL1, B5 HUB_CONNECT, C1 USBDN3_DP, C2 USBDN2_DP, C3 VSS, C4 I2C_ASEL0, C5 INT_N, D1 USBDN3_DM, D2 USBDN2_DM, D3 VDD12_BYP, D4 REF_SEL1, D5 SDA, E1 USBUP_DM, E2 USBUP_DP, E3 RESET_N, E4 REF_SEL0, E5 SCL

## VL53L0CXV0DH/1
designator U?, comment VL53L0
Time-of-Flight sensor, up to 200 cm distance, OPTICAL LGA12 4.4 x 2.4 x 1.0 mm, 940 nm laser (Class 1); Manufacturer: STMicroelectronics; Manufacturer Part Number: VL53L1CXV0FY/1; Sensing Distance: 157.480" (4m); Output Type: I²C; Voltage - Supply: 2.6 V ~ 3.5 V; Supplier 1: Digi-Key; RoHS: Request Inventory Verification; Category: Sensors, Transducers; Stock 1: 12283; Pricing 1: 1=6.62, 10=5.979, 100=4.9502 (USD); Part Status: Active; Voltage - Output Difference (Typ) @ Distance: -; Voltage - Output (Typ) @ Distance: -; Operating Temperature: -20°C ~ 85°C (TA); Base Part Number: VL53L1X; ComponentLink1URL: http://www.st.com/content/ccc/resource/technical/document/datasheet/group3/7d/85/c8/95/fb/3b/4e/2d/DM00452094/files/DM00452094.pdf/jcr:content/translations/en.DM00452094.pdf; ComponentLink1Description: http://www.st.com/content/ccc/resource/technical/document/datasheet/group3/7d/85/c8/95/fb/3b/4e/2d/DM00452094/files/DM00452094.pdf/jcr:content/translations/en.DM00452094.pdf; Supplier Part Number 1: 497-17764-1-ND
footprint VL53L0x
pins: 1 AVDDVCSEL (power), 2 AVSSVCSEL (power), 3 GND (power), 4 GND (power), 5 ~{XSHUT}, 6 GND (power), 7 GPIO1, 8 DNC, 9 SDA, 10 SCL, 11 AVDD (power), 12 GND (power)

## VL53L1CXV0FY/1_1
designator U?, comment VL53L1
Time-of-Flight sensor, 4 - 400 cm distance, OPTICAL LGA12 4.9 x 2.5 x 1.56 mm, 940 nm laser (Class 1); Manufacturer: STMicroelectronics; Manufacturer Part Number: VL53L1CXV0FY/1; Sensing Distance: 157.480" (4m); Output Type: I²C; Voltage - Supply: 2.6 V ~ 3.5 V; Supplier 1: Digi-Key; RoHS: Request Inventory Verification; Category: Sensors, Transducers; Stock 1: 12283; Pricing 1: 1=6.62, 10=5.979, 100=4.9502 (USD); Part Status: Active; Voltage - Output Difference (Typ) @ Distance: -; Voltage - Output (Typ) @ Distance: -; Operating Temperature: -20°C ~ 85°C (TA); Base Part Number: VL53L1X; ComponentLink1URL: http://www.st.com/content/ccc/resource/technical/document/datasheet/group3/7d/85/c8/95/fb/3b/4e/2d/DM00452094/files/DM00452094.pdf/jcr:content/translations/en.DM00452094.pdf; ComponentLink1Description: http://www.st.com/content/ccc/resource/technical/document/datasheet/group3/7d/85/c8/95/fb/3b/4e/2d/DM00452094/files/DM00452094.pdf/jcr:content/translations/en.DM00452094.pdf; Supplier Part Number 1: 497-17764-1-ND
footprint VL53L1x
pins: 1 AVDDVCSEL (power), 2 AVSSVCSEL (power), 3 GND (power), 4 GND (power), 5 ~{XSHUT}, 6 GND (power), 7 GPIO1, 8 DNC, 9 SDA, 10 SCL, 11 AVDD (power), 12 GND (power)

## VL6180X
designator U?
Manufacturer: STMicroelectronics; Manufacturer Part Number: VL6180XV0NR/1; With Proximity Sensor: Yes; Output Type: I²C; Voltage - Supply: 2.6 V ~ 3 V; Supplier 1: Digi-Key; Supplier Part Number 1: 497-14702-1-ND; RoHS: RoHS Compliant; Category: Sensors, Transducers; Stock 1: 6326; Pricing 1: 1=6.45, 10=5.8, 25=5.2752, 100=4.775, 250=4.375, 500=4, 1000=3.475, 2500=3.35 (USD); Packaging: Cut Tape (CT); Type: Ambient; Wavelength: -; Operating Temperature: -10°C ~ 60°C; Mounting Type: Surface Mount; Package / Case: 12-SMD Module; Supplier Device Package: 12-SMD; ComponentLink1URL: http://www.st.com/st-web-ui/static/active/en/resource/technical/document/datasheet/DM00112632.pdf; ComponentLink1Description: http://www.st.com/st-web-ui/static/active/en/resource/technical/document/datasheet/DM00112632.pdf
footprint VL6180X
pins: 1 GPIO1, 2 NC, 3 NC, 4 GPIO0, 5 SCL, 6 SDA, 7 NC, 8 AVDD_VCSEL, 9 AVSS_VCSEL, 10 AVDD, 11 NC, 12 AVSS